# EAGLE library part WE-RJ45_LAN_1000_BASET_2X8_STD_LED (library Wuerth_Elektronik_eiSos_Version_6-12)
WE-RJ45 LAN Transformer 1000 BaseT, STD 2x8 - RJ45 connector with integrated transformer common mode choke - 350 µH min.OCL with 8 mA bias - Complies with IEEE 802.3 - Extended temperature range from 0°C to +70°C available -- ADSL Modem -- Embedded PC -- LAN network applications -- Hub, Router, Switches
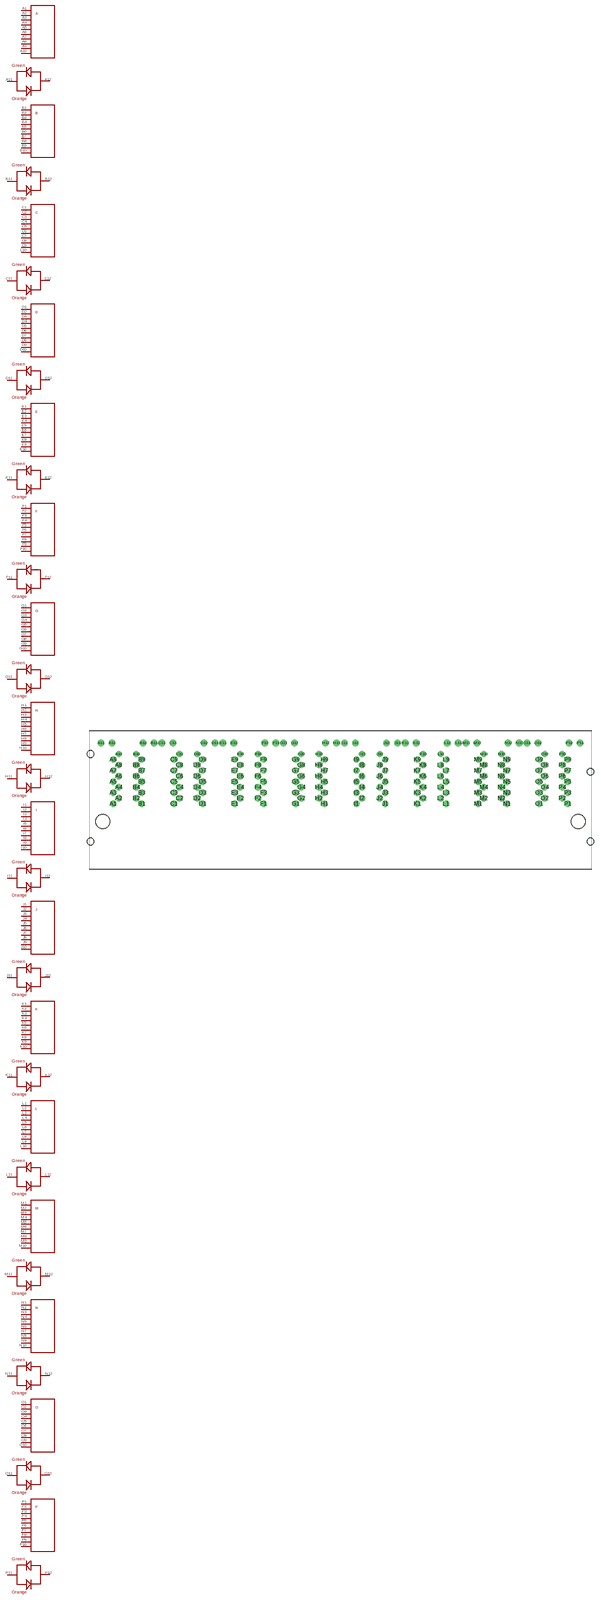
[diagram p124: symbol with the pads of WE-RJ45_LAN_1000_BASET_7499191660; footprint WE-RJ45_LAN_1000_BASET_7499191660]

Designator prefix T

## WE-RJ45_LAN_1000_BASET_2X8_STD_LED_7499191660  [WE-RJ45_LAN_1000_BASET_7499191660]
A1  A1  pas
A2  A2  pas
A3  A3  pas
A4  A4  pas
A5  A5  pas
A6  A6  pas
A7  A7  pas
A8  A8  pas
A9  A9  pas
A10  A10  pas
A11  A11  pas
A12  A12  pas
B1  B1  pas
B2  B2  pas
B3  B3  pas
B4  B4  pas
B5  B5  pas
B6  B6  pas
B7  B7  pas
B8  B8  pas
B9  B9  pas
B10  B10  pas
B11  B11  pas
B12  B12  pas
C1  C1  pas
C2  C2  pas
C3  C3  pas
C4  C4  pas
C5  C5  pas
C6  C6  pas
C7  C7  pas
C8  C8  pas
C9  C9  pas
C10  C10  pas
C11  C11  pas
C12  C12  pas
D1  D1  pas
D2  D2  pas
D3  D3  pas
D4  D4  pas
D5  D5  pas
D6  D6  pas
D7  D7  pas
D8  D8  pas
D9  D9  pas
D10  D10  pas
D11  D11  pas
D12  D12  pas
E1  E1  pas
E2  E2  pas
E3  E3  pas
E4  E4  pas
E5  E5  pas
E6  E6  pas
E7  E7  pas
E8  E8  pas
E9  E9  pas
E10  E10  pas
E11  E11  pas
E12  E12  pas
F1  F1  pas
F2  F2  pas
F3  F3  pas
F4  F4  pas
F5  F5  pas
F6  F6  pas
F7  F7  pas
F8  F8  pas
F9  F9  pas
F10  F10  pas
F11  F11  pas
F12  F12  pas
G1  G1  pas
G2  G2  pas
G3  G3  pas
G4  G4  pas
G5  G5  pas
G6  G6  pas
G7  G7  pas
G8  G8  pas
G9  G9  pas
G10  G10  pas
G11  G11  pas
G12  G12  pas
H1  H1  pas
H2  H2  pas
H3  H3  pas
H4  H4  pas
H5  H5  pas
H6  H6  pas
H7  H7  pas
H8  H8  pas
H9  H9  pas
H10  H10  pas
H11  H11  pas
H12  H12  pas
I1  I1  pas
I2  I2  pas
I3  I3  pas
I4  I4  pas
I5  I5  pas
I6  I6  pas
I7  I7  pas
I8  I8  pas
I9  I9  pas
I10  I10  pas
I11  I11  pas
I12  I12  pas
J1  J1  pas
J2  J2  pas
J3  J3  pas
J4  J4  pas
J5  J5  pas
J6  J6  pas
J7  J7  pas
J8  J8  pas
J9  J9  pas
J10  J10  pas
J11  J11  pas
J12  J12  pas
K1  K1  pas
K2  K2  pas
K3  K3  pas
K4  K4  pas
K5  K5  pas
K6  K6  pas
K7  K7  pas
K8  K8  pas
K9  K9  pas
K10  K10  pas
K11  K11  pas
K12  K12  pas
L1  L1  pas
L2  L2  pas
L3  L3  pas
L4  L4  pas
L5  L5  pas
L6  L6  pas
L7  L7  pas
L8  L8  pas
L9  L9  pas
L10  L10  pas
L11  L11  pas
L12  L12  pas
M1  M1  pas
M2  M2  pas
M3  M3  pas
M4  M4  pas
M5  M5  pas
M6  M6  pas
M7  M7  pas
M8  M8  pas
M9  M9  pas
M10  M10  pas
M11  M11  pas
M12  M12  pas
N1  N1  pas
N2  N2  pas
N3  N3  pas
N4  N4  pas
N5  N5  pas
N6  N6  pas
N7  N7  pas
N8  N8  pas
N9  N9  pas
N10  N10  pas
N11  N11  pas
N12  N12  pas
O1  O1  pas
O2  O2  pas
O3  O3  pas
O4  O4  pas
O5  O5  pas
O6  O6  pas
O7  O7  pas
O8  O8  pas
O9  O9  pas
O10  O10  pas
O11  O11  pas
O12  O12  pas
P1  P1  pas
P2  P2  pas
P3  P3  pas
P4  P4  pas
P5  P5  pas
P6  P6  pas
P7  P7  pas
P8  P8  pas
P9  P9  pas
P10  P10  pas
P11  P11  pas
P12  P12  pas

## Footprint WE-RJ45_LAN_1000_BASET_7499191660 (pad centres in mm)
WE-RJ45 LAN Transformer 1000 BaseT, STD 2x8 with LED
drill 0.91 round: A1 -52.195,4.06; A2 -50.925,5.33; A3 -52.195,6.6; A4 -50.925,7.87; A5 -52.195,9.14; A6 -50.925,10.41; A7 -52.195,11.68; A8 -50.925,12.95; A9 -52.195,14.22; A10 -50.925,15.49; B1 -45.595,4.06; B2 -46.865,5.33; B3 -45.595,6.6; B4 -46.865,7.87; B5 -45.595,9.14; B6 -46.865,10.41; B7 -45.595,11.68; B8 -46.865,12.95; B9 -45.595,14.22; B10 -46.865,15.49; C1 -38.225,4.06; C2 -36.955,5.33; C3 -38.225,6.6; C4 -36.955,7.87; C5 -38.225,9.14; C6 -36.955,10.41; C7 -38.225,11.68; C8 -36.955,12.95; C9 -38.225,14.22; C10 -36.955,15.49; D1 -31.625,4.06; D2 -32.895,5.33; D3 -31.625,6.6; D4 -32.895,7.87; D5 -31.625,9.14; D6 -32.895,10.41; D7 -31.625,11.68; D8 -32.895,12.95; D9 -31.625,14.22; D10 -32.895,15.49; E1 -24.255,4.06; E2 -22.985,5.33; E3 -24.255,6.6; E4 -22.985,7.87; E5 -24.255,9.14; E6 -22.985,10.41; E7 -24.255,11.68; E8 -22.985,12.95; E9 -24.255,14.22; E10 -22.985,15.49; F1 -17.655,4.06; F2 -18.925,5.33; F3 -17.655,6.6; F4 -18.925,7.87; F5 -17.655,9.14; F6 -18.925,10.41; F7 -17.655,11.68; F8 -18.925,12.95; F9 -17.655,14.22; F10 -18.925,15.49; G1 -10.285,4.06; G2 -9.015,5.33; G3 -10.285,6.6; G4 -9.015,7.87; G5 -10.285,9.14; G6 -9.015,10.41; G7 -10.285,11.68; G8 -9.015,12.95; G9 -10.285,14.22; G10 -9.015,15.49; H1 -3.685,4.06; H2 -4.955,5.33; H3 -3.685,6.6; H4 -4.955,7.87; H5 -3.685,9.14; H6 -4.955,10.41; H7 -3.685,11.68; H8 -4.955,12.95; H9 -3.685,14.22; H10 -4.955,15.49; I1 3.685,4.06; I2 4.955,5.33; I3 3.685,6.6; I4 4.955,7.87; I5 3.685,9.14; I6 4.955,10.41; I7 3.685,11.68; I8 4.955,12.95; I9 3.685,14.22; I10 4.955,15.49; J1 10.285,4.06; J2 9.015,5.33; J3 10.285,6.6; J4 9.015,7.87; J5 10.285,9.14; J6 9.015,10.41; J7 10.285,11.68; J8 9.015,12.95; J9 10.285,14.22; J10 9.015,15.49; K1 17.655,4.06; K2 18.925,5.33; K3 17.655,6.6; K4 18.925,7.87; K5 17.655,9.14; K6 18.925,10.41; K7 17.655,11.68; K8 18.925,12.95; K9 17.655,14.22; K10 18.925,15.49; L1 24.255,4.06; L2 22.985,5.33; L3 24.255,6.6; L4 22.985,7.87; L5 24.255,9.14; L6 22.985,10.41; L7 24.255,11.68; L8 22.985,12.95; L9 24.255,14.22; L10 22.985,15.49; M1 31.625,4.06; M2 32.895,5.33; M3 31.625,6.6; M4 32.895,7.87; M5 31.625,9.14; M6 32.895,10.41; M7 31.625,11.68; M8 32.895,12.95; M9 31.625,14.22; M10 32.895,15.49; N1 38.225,4.06; N2 36.955,5.33; N3 38.225,6.6; N4 36.955,7.87; N5 38.225,9.14; N6 36.955,10.41; N7 38.225,11.68; N8 36.955,12.95; N9 38.225,14.22; N10 36.955,15.49; O1 45.595,4.06; O2 46.865,5.33; O3 45.595,6.6; O4 46.865,7.87; O5 45.595,9.14; O6 46.865,10.41; O7 45.595,11.68; O8 46.865,12.95; O9 45.595,14.22; O10 46.865,15.49; P1 52.195,4.06; P2 50.925,5.33; P3 52.195,6.6; P4 50.925,7.87; P5 52.195,9.14; P6 50.925,10.41; P7 52.195,11.68; P8 50.925,12.95; P9 52.195,14.22; P10 50.925,15.49
drill 1.02 round: A11 -54.99,18.02; A12 -52.45,18.02; B11 -42.8,18.02; B12 -45.34,18.02; C11 -41.02,18.02; C12 -38.48,18.02; D11 -28.83,18.02; D12 -31.37,18.02; E11 -27.05,18.02; E12 -24.51,18.02; F11 -14.86,18.02; F12 -17.4,18.02; G11 -13.08,18.02; G12 -10.54,18.02; H11 -0.89,18.02; H12 -3.43,18.02; I11 0.89,18.02; I12 3.43,18.02; J11 13.08,18.02; J12 10.54,18.02; K11 14.86,18.02; K12 17.4,18.02; L11 27.05,18.02; L12 24.51,18.02; M11 28.83,18.02; M12 31.37,18.02; N11 41.02,18.02; N12 38.48,18.02; O11 42.8,18.02; O12 45.34,18.02; P11 54.99,18.02; P12 52.45,18.02
hole 3.25 at 54.61,0
hole 3.25 at -54.61,0
hole 1.57 at -57.405,-4.57
hole 1.57 at 57.405,-4.57
hole 1.57 at -57.405,15.49
hole 1.57 at 57.405,11.43